# Altium schematic symbol library kmilo17pet-TI_MSP430.SchLib: 1463 symbols (part 107 of 130)
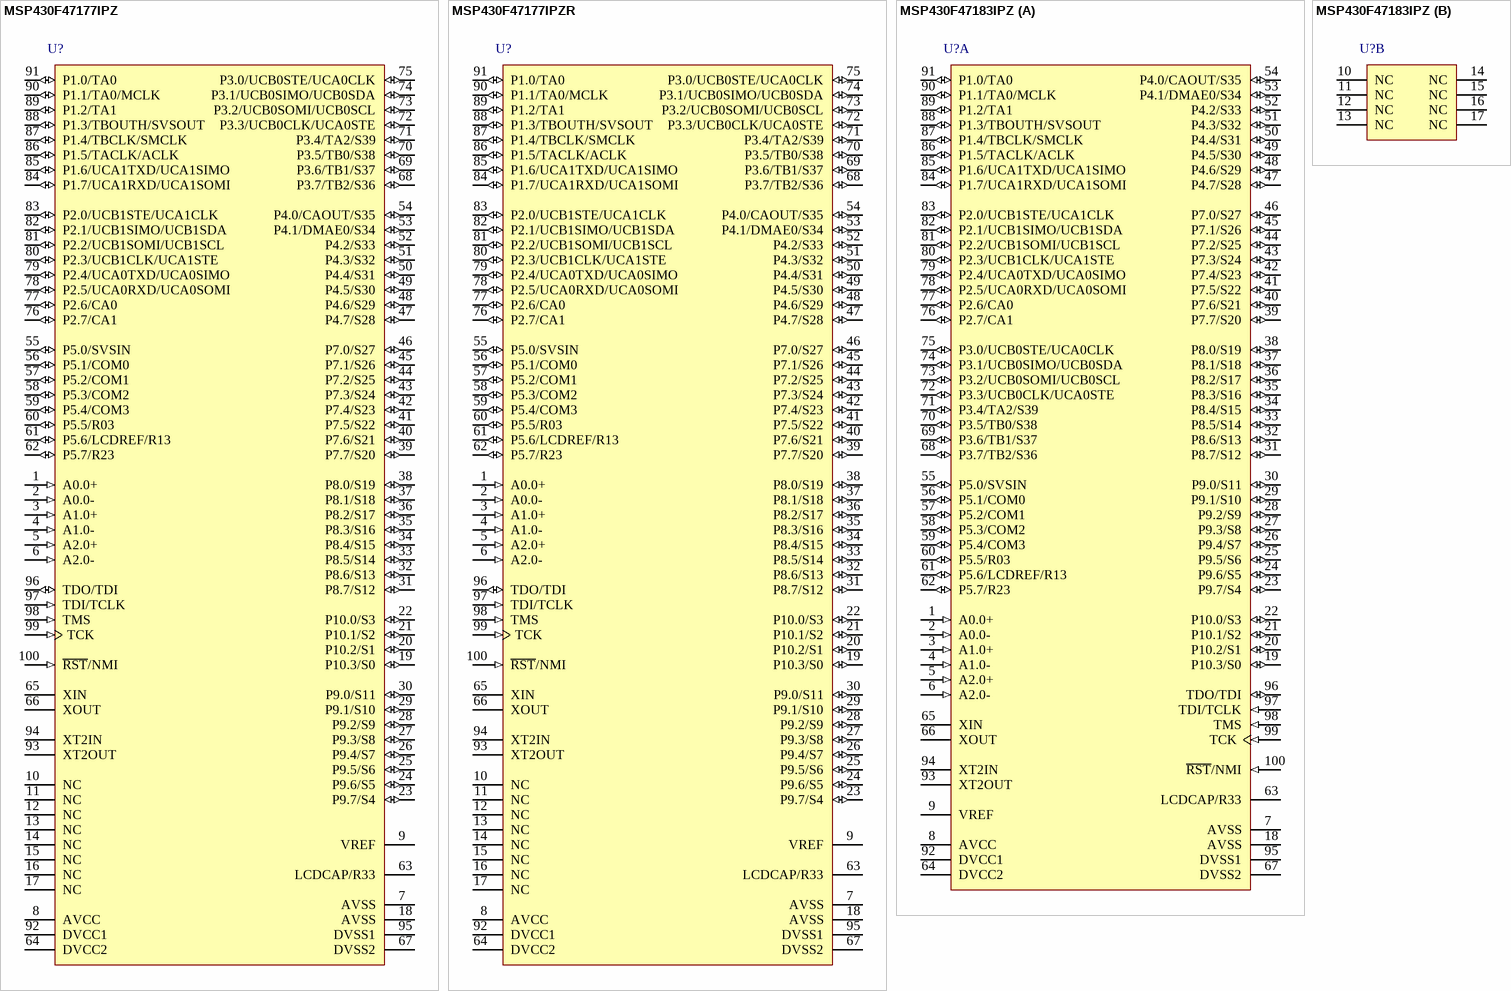
[diagram p289: symbols MSP430F47177IPZ to MSP430F47183IPZ]

## MSP430F47183IPZ
designator U?
16 MHz Mixed Signal Microcontroller with 116 KB Flash, 8129 B SRAM and 72 GPIOs, -40 to 85 degC, 100-pin QFP (PZ), Green (RoHS & no Sb/Br); Manufacturer: Texas Instruments; PartNumber: MSP430F47183IPZ; ADC: 16-bit Sigma Delta; Brown Out Reset: Yes; Flash(KB): 116; Frequency(MHz): 16; GPIO: 72; LCD Segments: 160; Multiplier: 16x16; SRAM(B): 8192; SubFamily: 4 Series with LCD; Timers - 16-bit: 2; DatasheetVersion: SLAS626C; PackageVersion: 4040149/B; PackageReference: PZ100; PackageDescription: 100-Pin Plastic Flat Pack, Body 14 x 14 mm, Pitch 0.5 mm; Supplier 1: Digi-Key; Supplier Part Number 1: 296-24641-2-ND; Supplier 2: Digi-Key; Supplier Part Number 2: 296-24641-1-ND; Supplier 3: Digi-Key; Supplier Part Number 3: 296-24641-6-ND; Supplier 4: Newark; Supplier Part Number 4: 24R9848; Supplier 5: Mouser; Supplier Part Number 5: 595-MSP430F47177IPZR; Comparators: Yes; Eco-Plan: Green (RoHS & no Sb/Br); SVS: Yes; Temp Sensor: Yes; USCI_A (UART/LIN/IrDA/SPI): 2; USCI_B (I2C & SPI): 2; Watchdog: Yes; Mounting Technology: Surface Mount; Code_JEDEC: MS-026; ComponentLink1Description: Manufacturer URL; ComponentLink1URL: http://www.ti.com/; ComponentLink2Description: Datasheet; ComponentLink2URL: http://www.ti.com/general/docs/lit/getliterature.tsp?genericPartNumber=MSP430F47183&fileType=pdf; ComponentLink3Description: Package Specification; ComponentLink3URL: http://www.ti.com/lit/ml/mtqf013a/mtqf013a.pdf
footprint TI-PZ100_N (QFP, 100-Leads, Body 14x14mm, Pitch 0.5mm, IPC Medium Density)
part A pins: 1 A0.0+ (in) "SD16_A positive analog input A0.0", 2 A0.0- (in) "SD16_A negative analog input A0.0", 3 A1.0+ (in) "SD16_A positive analog input A1.0", 4 A1.0- (in) "SD16_A negative analog input A1.0", 5 A2.0+ (in) "SD16_A positive analog input A2.0", 6 A2.0- (in) "SD16_A negative analog input A2.0", 7 AVSS (power) "Analog supply voltage, negative terminal", 8 AVCC (power) "Analog supply voltage, positive terminal. Must not power up prior to DVCC1/DVCC2.", 9 VREF "Input for an external reference voltage/internal reference voltage output (can be used as mid-voltage)", 18 AVSS (power) "Analog supply voltage, negative terminal.", 19 P10.3/S0 (io), 20 P10.2/S1 (io), 21 P10.1/S2 (io), 22 P10.0/S3 (io), 23 P9.7/S4 (io), 24 P9.6/S5 (io), 25 P9.5/S6 (io), 26 P9.4/S7 (io), 27 P9.3/S8 (io), 28 P9.2/S9 (io), 29 P9.1/S10 (io), 30 P9.0/S11 (io), 31 P8.7/S12 (io), 32 P8.6/S13 (io), 33 P8.5/S14 (io), 34 P8.4/S15 (io), 35 P8.3/S16 (io), 36 P8.2/S17 (io), 37 P8.1/S18 (io), 38 P8.0/S19 (io), 39 P7.7/S20 (io), 40 P7.6/S21 (io), 41 P7.5/S22 (io), 42 P7.4/S23 (io), 43 P7.3/S24 (io), 44 P7.2/S25 (io), 45 P7.1/S26 (io), 46 P7.0/S27 (io), 47 P4.7/S28 (io), 48 P4.6/S29 (io), 49 P4.5/S30 (io), 50 P4.4/S31 (io), 51 P4.3/S32 (io), 52 P4.2/S33 (io), 53 P4.1/DMAE0/S34 (io), 54 P4.0/CAOUT/S35 (io), 55 P5.0/SVSIN (io), 56 P5.1/COM0 (io), 57 P5.2/COM1 (io), 58 P5.3/COM2 (io), 59 P5.4/COM3 (io), 60 P5.5/R03 (io), 61 P5.6/LCDREF/R13 (io), 62 P5.7/R23 (io), 63 LCDCAP/R33, 64 DVCC2 (power) "Digital supply voltage, positive terminal.", 65 XIN "Input port for crystal oscillator XT1. Standard or watch crystals can be connected.", 66 XOUT "Output terminal of crystal oscillator XT1", 67 DVSS2 (power) "Digital supply voltage, negative terminal.", 68 P3.7/TB2/S36 (io), 69 P3.6/TB1/S37 (io), 70 P3.5/TB0/S38 (io), 71 P3.4/TA2/S39 (io), 72 P3.3/UCB0CLK/UCA0STE (io), 73 P3.2/UCB0SOMI/UCB0SCL (io), 74 P3.1/UCB0SIMO/UCB0SDA (io), 75 P3.0/UCB0STE/UCA0CLK (io), 76 P2.7/CA1 (io), 77 P2.6/CA0 (io), 78 P2.5/UCA0RXD/UCA0SOMI (io), 79 P2.4/UCA0TXD/UCA0SIMO (io), 80 P2.3/UCB1CLK/UCA1STE (io), 81 P2.2/UCB1SOMI/UCB1SCL (io), 82 P2.1/UCB1SIMO/UCB1SDA (io), 83 P2.0/UCB1STE/UCA1CLK (io), 84 P1.7/UCA1RXD/UCA1SOMI (io), 85 P1.6/UCA1TXD/UCA1SIMO (io), 86 P1.5/TACLK/ACLK (io), 87 P1.4/TBCLK/SMCLK (io), 88 P1.3/TBOUTH/SVSOUT (io), 89 P1.2/TA1 (io), 90 P1.1/TA0/MCLK (io), 91 P1.0/TA0 (io), 92 DVCC1 (power) "Digital supply voltage, positive terminal.", 93 XT2OUT "Output terminal of crystal oscillator XT2", 94 XT2IN "Input port for crystal oscillator XT2. Only standard crystals can be connected.", 95 DVSS1 (power) "Digital supply voltage, negative terminal.", 96 TDO/TDI (io), 97 TDI/TCLK (in), 98 TMS (in) "Test mode select. TMS is used as an input port for device programming and test.", 99 TCK (in) "Test clock. TCK is the clock input port for device programming and test.", 100 ~{RST}/NMI (in)
part B pins: 10 NC "Connect pin to analog ground (AVSS).", 11 NC "Connect pin to analog ground (AVSS).", 12 NC "Connect pin to analog ground (AVSS).", 13 NC "Connect pin to analog ground (AVSS).", 14 NC "Connect pin to analog ground (AVSS).", 15 NC "Connect pin to analog ground (AVSS).", 16 NC "Connect pin to analog ground (AVSS).", 17 NC "Connect pin to analog ground (AVSS)."

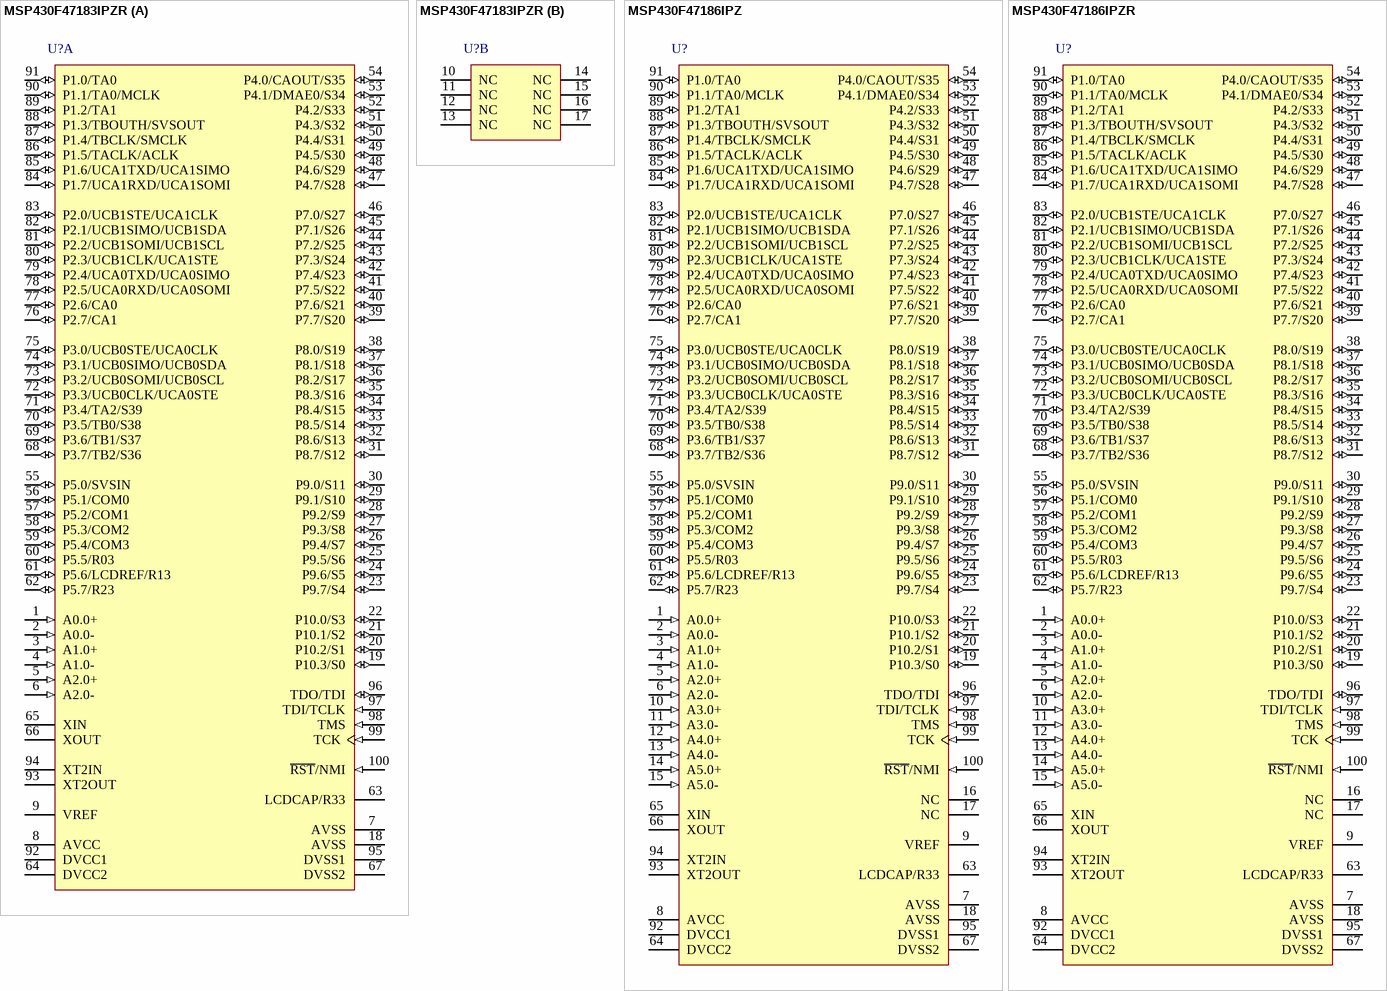
[diagram p180: symbols MSP430F47183IPZR to MSP430F47186IPZR]

## MSP430F47183IPZR
designator U?
16 MHz Mixed Signal Microcontroller with 116 KB Flash, 8129 B SRAM and 72 GPIOs, -40 to 85 degC, 100-pin QFP (PZ), Green (RoHS & no Sb/Br); Manufacturer: Texas Instruments; PartNumber: MSP430F47183IPZR; ADC: 16-bit Sigma Delta; Brown Out Reset: Yes; Flash(KB): 116; Frequency(MHz): 16; GPIO: 72; LCD Segments: 160; Multiplier: 16x16; SRAM(B): 8192; SubFamily: 4 Series with LCD; Timers - 16-bit: 2; DatasheetVersion: SLAS626C; PackageVersion: 4040149/B; PackageReference: PZ100; PackageDescription: 100-Pin Plastic Flat Pack, Body 14 x 14 mm, Pitch 0.5 mm; Supplier 1: Digi-Key; Supplier Part Number 1: MSP430F47183IPZ-ND; Supplier 2: Newark; Supplier Part Number 2: 72R5885; Supplier 3: Mouser; Supplier Part Number 3: 595-MSP430F47183IPZ; Comparators: Yes; Eco-Plan: Green (RoHS & no Sb/Br); SVS: Yes; Temp Sensor: Yes; USCI_A (UART/LIN/IrDA/SPI): 2; USCI_B (I2C & SPI): 2; Watchdog: Yes; Mounting Technology: Surface Mount; Code_JEDEC: MS-026; ComponentLink1Description: Manufacturer URL; ComponentLink1URL: http://www.ti.com/; ComponentLink2Description: Datasheet; ComponentLink2URL: http://www.ti.com/general/docs/lit/getliterature.tsp?genericPartNumber=MSP430F47183&fileType=pdf; ComponentLink3Description: Package Specification; ComponentLink3URL: http://www.ti.com/lit/ml/mtqf013a/mtqf013a.pdf
footprint TI-PZ100_N (QFP, 100-Leads, Body 14x14mm, Pitch 0.5mm, IPC Medium Density)
part A pins: 1 A0.0+ (in) "SD16_A positive analog input A0.0", 2 A0.0- (in) "SD16_A negative analog input A0.0", 3 A1.0+ (in) "SD16_A positive analog input A1.0", 4 A1.0- (in) "SD16_A negative analog input A1.0", 5 A2.0+ (in) "SD16_A positive analog input A2.0", 6 A2.0- (in) "SD16_A negative analog input A2.0", 7 AVSS (power) "Analog supply voltage, negative terminal", 8 AVCC (power) "Analog supply voltage, positive terminal. Must not power up prior to DVCC1/DVCC2.", 9 VREF "Input for an external reference voltage/internal reference voltage output (can be used as mid-voltage)", 18 AVSS (power) "Analog supply voltage, negative terminal.", 19 P10.3/S0 (io), 20 P10.2/S1 (io), 21 P10.1/S2 (io), 22 P10.0/S3 (io), 23 P9.7/S4 (io), 24 P9.6/S5 (io), 25 P9.5/S6 (io), 26 P9.4/S7 (io), 27 P9.3/S8 (io), 28 P9.2/S9 (io), 29 P9.1/S10 (io), 30 P9.0/S11 (io), 31 P8.7/S12 (io), 32 P8.6/S13 (io), 33 P8.5/S14 (io), 34 P8.4/S15 (io), 35 P8.3/S16 (io), 36 P8.2/S17 (io), 37 P8.1/S18 (io), 38 P8.0/S19 (io), 39 P7.7/S20 (io), 40 P7.6/S21 (io), 41 P7.5/S22 (io), 42 P7.4/S23 (io), 43 P7.3/S24 (io), 44 P7.2/S25 (io), 45 P7.1/S26 (io), 46 P7.0/S27 (io), 47 P4.7/S28 (io), 48 P4.6/S29 (io), 49 P4.5/S30 (io), 50 P4.4/S31 (io), 51 P4.3/S32 (io), 52 P4.2/S33 (io), 53 P4.1/DMAE0/S34 (io), 54 P4.0/CAOUT/S35 (io), 55 P5.0/SVSIN (io), 56 P5.1/COM0 (io), 57 P5.2/COM1 (io), 58 P5.3/COM2 (io), 59 P5.4/COM3 (io), 60 P5.5/R03 (io), 61 P5.6/LCDREF/R13 (io), 62 P5.7/R23 (io), 63 LCDCAP/R33, 64 DVCC2 (power) "Digital supply voltage, positive terminal.", 65 XIN "Input port for crystal oscillator XT1. Standard or watch crystals can be connected.", 66 XOUT "Output terminal of crystal oscillator XT1", 67 DVSS2 (power) "Digital supply voltage, negative terminal.", 68 P3.7/TB2/S36 (io), 69 P3.6/TB1/S37 (io), 70 P3.5/TB0/S38 (io), 71 P3.4/TA2/S39 (io), 72 P3.3/UCB0CLK/UCA0STE (io), 73 P3.2/UCB0SOMI/UCB0SCL (io), 74 P3.1/UCB0SIMO/UCB0SDA (io), 75 P3.0/UCB0STE/UCA0CLK (io), 76 P2.7/CA1 (io), 77 P2.6/CA0 (io), 78 P2.5/UCA0RXD/UCA0SOMI (io), 79 P2.4/UCA0TXD/UCA0SIMO (io), 80 P2.3/UCB1CLK/UCA1STE (io), 81 P2.2/UCB1SOMI/UCB1SCL (io), 82 P2.1/UCB1SIMO/UCB1SDA (io), 83 P2.0/UCB1STE/UCA1CLK (io), 84 P1.7/UCA1RXD/UCA1SOMI (io), 85 P1.6/UCA1TXD/UCA1SIMO (io), 86 P1.5/TACLK/ACLK (io), 87 P1.4/TBCLK/SMCLK (io), 88 P1.3/TBOUTH/SVSOUT (io), 89 P1.2/TA1 (io), 90 P1.1/TA0/MCLK (io), 91 P1.0/TA0 (io), 92 DVCC1 (power) "Digital supply voltage, positive terminal.", 93 XT2OUT "Output terminal of crystal oscillator XT2", 94 XT2IN "Input port for crystal oscillator XT2. Only standard crystals can be connected.", 95 DVSS1 (power) "Digital supply voltage, negative terminal.", 96 TDO/TDI (io), 97 TDI/TCLK (in), 98 TMS (in) "Test mode select. TMS is used as an input port for device programming and test.", 99 TCK (in) "Test clock. TCK is the clock input port for device programming and test.", 100 ~{RST}/NMI (in)
part B pins: 10 NC "Connect pin to analog ground (AVSS).", 11 NC "Connect pin to analog ground (AVSS).", 12 NC "Connect pin to analog ground (AVSS).", 13 NC "Connect pin to analog ground (AVSS).", 14 NC "Connect pin to analog ground (AVSS).", 15 NC "Connect pin to analog ground (AVSS).", 16 NC "Connect pin to analog ground (AVSS).", 17 NC "Connect pin to analog ground (AVSS)."

## MSP430F47186IPZ
designator U?
16 MHz Mixed Signal Microcontroller with 116 KB Flash, 8129 B SRAM and 68 GPIOs, -40 to 85 degC, 100-pin QFP (PZ), Green (RoHS & no Sb/Br); Manufacturer: Texas Instruments; PartNumber: MSP430F47186IPZ; ADC: 16-bit Sigma Delta; Brown Out Reset: Yes; Flash(KB): 116; Frequency(MHz): 16; GPIO: 68; LCD Segments: 160; Multiplier: 16x16; SRAM(B): 8192; SubFamily: 4 Series with LCD; Timers - 16-bit: 2; DatasheetVersion: SLAS626C; PackageVersion: 4040149/B; PackageReference: PZ100; PackageDescription: 100-Pin Plastic Flat Pack, Body 14 x 14 mm, Pitch 0.5 mm; Supplier 1: Digi-Key; Supplier Part Number 1: 296-25776-2-ND; Supplier 2: Digi-Key; Supplier Part Number 2: 296-25776-1-ND; Supplier 3: Digi-Key; Supplier Part Number 3: 296-25776-6-ND; Supplier 4: Newark; Supplier Part Number 4: 68R9288; Supplier 5: Mouser; Supplier Part Number 5: 595-MSP430F47183IPZR; Comparators: Yes; Eco-Plan: Green (RoHS & no Sb/Br); SVS: Yes; Temp Sensor: Yes; USCI_A (UART/LIN/IrDA/SPI): 2; USCI_B (I2C & SPI): 2; Watchdog: Yes; Mounting Technology: Surface Mount; Code_JEDEC: MS-026; ComponentLink1Description: Manufacturer URL; ComponentLink1URL: http://www.ti.com/; ComponentLink2Description: Datasheet; ComponentLink2URL: http://www.ti.com/general/docs/lit/getliterature.tsp?genericPartNumber=MSP430F47186&fileType=pdf; ComponentLink3Description: Package Specification; ComponentLink3URL: http://www.ti.com/lit/ml/mtqf013a/mtqf013a.pdf
footprint TI-PZ100_N (QFP, 100-Leads, Body 14x14mm, Pitch 0.5mm, IPC Medium Density)
pins: 1 A0.0+ (in) "SD16_A positive analog input A0.0", 2 A0.0- (in) "SD16_A negative analog input A0.0", 3 A1.0+ (in) "SD16_A positive analog input A1.0", 4 A1.0- (in) "SD16_A negative analog input A1.0", 5 A2.0+ (in) "SD16_A positive analog input A2.0", 6 A2.0- (in) "SD16_A negative analog input A2.0", 7 AVSS (power) "Analog supply voltage, negative terminal", 8 AVCC (power) "Analog supply voltage, positive terminal. Must not power up prior to DVCC1/DVCC2.", 9 VREF "Input for an external reference voltage/internal reference voltage output (can be used as mid-voltage)", 10 A3.0+ (in) "SD16_A positive analog input A3.0", 11 A3.0- (in) "SD16_A negative analog input A3.0", 12 A4.0+ (in) "SD16_A positive analog input A4.0", 13 A4.0- (in) "SD16_A negative analog input A4.0", 14 A5.0+ (in) "SD16_A positive analog input A5.0", 15 A5.0- (in) "SD16_A negative analog input A5.0", 16 NC "Connect pin to analog ground (AVSS).", 17 NC "Connect pin to analog ground (AVSS).", 18 AVSS (power) "Analog supply voltage, negative terminal.", 19 P10.3/S0 (io), 20 P10.2/S1 (io), 21 P10.1/S2 (io), 22 P10.0/S3 (io), 23 P9.7/S4 (io), 24 P9.6/S5 (io), 25 P9.5/S6 (io), 26 P9.4/S7 (io), 27 P9.3/S8 (io), 28 P9.2/S9 (io), 29 P9.1/S10 (io), 30 P9.0/S11 (io), 31 P8.7/S12 (io), 32 P8.6/S13 (io), 33 P8.5/S14 (io), 34 P8.4/S15 (io), 35 P8.3/S16 (io), 36 P8.2/S17 (io), 37 P8.1/S18 (io), 38 P8.0/S19 (io), 39 P7.7/S20 (io), 40 P7.6/S21 (io), 41 P7.5/S22 (io), 42 P7.4/S23 (io), 43 P7.3/S24 (io), 44 P7.2/S25 (io), 45 P7.1/S26 (io), 46 P7.0/S27 (io), 47 P4.7/S28 (io), 48 P4.6/S29 (io), 49 P4.5/S30 (io), 50 P4.4/S31 (io), 51 P4.3/S32 (io), 52 P4.2/S33 (io), 53 P4.1/DMAE0/S34 (io), 54 P4.0/CAOUT/S35 (io), 55 P5.0/SVSIN (io), 56 P5.1/COM0 (io), 57 P5.2/COM1 (io), 58 P5.3/COM2 (io), 59 P5.4/COM3 (io), 60 P5.5/R03 (io), 61 P5.6/LCDREF/R13 (io), 62 P5.7/R23 (io), 63 LCDCAP/R33, 64 DVCC2 (power) "Digital supply voltage, positive terminal.", 65 XIN "Input port for crystal oscillator XT1. Standard or watch crystals can be connected.", 66 XOUT "Output terminal of crystal oscillator XT1", 67 DVSS2 (power) "Digital supply voltage, negative terminal.", 68 P3.7/TB2/S36 (io), 69 P3.6/TB1/S37 (io), 70 P3.5/TB0/S38 (io), 71 P3.4/TA2/S39 (io), 72 P3.3/UCB0CLK/UCA0STE (io), 73 P3.2/UCB0SOMI/UCB0SCL (io), 74 P3.1/UCB0SIMO/UCB0SDA (io), 75 P3.0/UCB0STE/UCA0CLK (io), 76 P2.7/CA1 (io), 77 P2.6/CA0 (io), 78 P2.5/UCA0RXD/UCA0SOMI (io), 79 P2.4/UCA0TXD/UCA0SIMO (io), 80 P2.3/UCB1CLK/UCA1STE (io), 81 P2.2/UCB1SOMI/UCB1SCL (io), 82 P2.1/UCB1SIMO/UCB1SDA (io), 83 P2.0/UCB1STE/UCA1CLK (io), 84 P1.7/UCA1RXD/UCA1SOMI (io), 85 P1.6/UCA1TXD/UCA1SIMO (io), 86 P1.5/TACLK/ACLK (io), 87 P1.4/TBCLK/SMCLK (io), 88 P1.3/TBOUTH/SVSOUT (io), 89 P1.2/TA1 (io), 90 P1.1/TA0/MCLK (io), 91 P1.0/TA0 (io), 92 DVCC1 (power) "Digital supply voltage, positive terminal.", 93 XT2OUT "Output terminal of crystal oscillator XT2", 94 XT2IN "Input port for crystal oscillator XT2. Only standard crystals can be connected.", 95 DVSS1 (power) "Digital supply voltage, negative terminal.", 96 TDO/TDI (io), 97 TDI/TCLK (in), 98 TMS (in) "Test mode select. TMS is used as an input port for device programming and test.", 99 TCK (in) "Test clock. TCK is the clock input port for device programming and test.", 100 ~{RST}/NMI (in)

## MSP430F47186IPZR
designator U?
16 MHz Mixed Signal Microcontroller with 116 KB Flash, 8129 B SRAM and 68 GPIOs, -40 to 85 degC, 100-pin QFP (PZ), Green (RoHS & no Sb/Br); Manufacturer: Texas Instruments; PartNumber: MSP430F47186IPZR; ADC: 16-bit Sigma Delta; Brown Out Reset: Yes; Flash(KB): 116; Frequency(MHz): 16; GPIO: 68; LCD Segments: 160; Multiplier: 16x16; SRAM(B): 8192; SubFamily: 4 Series with LCD; Timers - 16-bit: 2; DatasheetVersion: SLAS626C; PackageVersion: 4040149/B; PackageReference: PZ100; PackageDescription: 100-Pin Plastic Flat Pack, Body 14 x 14 mm, Pitch 0.5 mm; Supplier 1: Digi-Key; Supplier Part Number 1: MSP430F47186IPZ-ND; Supplier 2: Newark; Supplier Part Number 2: 24R9849; Supplier 3: Mouser; Supplier Part Number 3: 595-MSP430F47186IPZ; Comparators: Yes; Eco-Plan: Green (RoHS & no Sb/Br); SVS: Yes; Temp Sensor: Yes; USCI_A (UART/LIN/IrDA/SPI): 2; USCI_B (I2C & SPI): 2; Watchdog: Yes; Mounting Technology: Surface Mount; Code_JEDEC: MS-026; ComponentLink1Description: Manufacturer URL; ComponentLink1URL: http://www.ti.com/; ComponentLink2Description: Datasheet; ComponentLink2URL: http://www.ti.com/general/docs/lit/getliterature.tsp?genericPartNumber=MSP430F47186&fileType=pdf; ComponentLink3Description: Package Specification; ComponentLink3URL: http://www.ti.com/lit/ml/mtqf013a/mtqf013a.pdf
footprint TI-PZ100_N (QFP, 100-Leads, Body 14x14mm, Pitch 0.5mm, IPC Medium Density)
pins: 1 A0.0+ (in) "SD16_A positive analog input A0.0", 2 A0.0- (in) "SD16_A negative analog input A0.0", 3 A1.0+ (in) "SD16_A positive analog input A1.0", 4 A1.0- (in) "SD16_A negative analog input A1.0", 5 A2.0+ (in) "SD16_A positive analog input A2.0", 6 A2.0- (in) "SD16_A negative analog input A2.0", 7 AVSS (power) "Analog supply voltage, negative terminal", 8 AVCC (power) "Analog supply voltage, positive terminal. Must not power up prior to DVCC1/DVCC2.", 9 VREF "Input for an external reference voltage/internal reference voltage output (can be used as mid-voltage)", 10 A3.0+ (in) "SD16_A positive analog input A3.0", 11 A3.0- (in) "SD16_A negative analog input A3.0", 12 A4.0+ (in) "SD16_A positive analog input A4.0", 13 A4.0- (in) "SD16_A negative analog input A4.0", 14 A5.0+ (in) "SD16_A positive analog input A5.0", 15 A5.0- (in) "SD16_A negative analog input A5.0", 16 NC "Connect pin to analog ground (AVSS).", 17 NC "Connect pin to analog ground (AVSS).", 18 AVSS (power) "Analog supply voltage, negative terminal.", 19 P10.3/S0 (io), 20 P10.2/S1 (io), 21 P10.1/S2 (io), 22 P10.0/S3 (io), 23 P9.7/S4 (io), 24 P9.6/S5 (io), 25 P9.5/S6 (io), 26 P9.4/S7 (io), 27 P9.3/S8 (io), 28 P9.2/S9 (io), 29 P9.1/S10 (io), 30 P9.0/S11 (io), 31 P8.7/S12 (io), 32 P8.6/S13 (io), 33 P8.5/S14 (io), 34 P8.4/S15 (io), 35 P8.3/S16 (io), 36 P8.2/S17 (io), 37 P8.1/S18 (io), 38 P8.0/S19 (io), 39 P7.7/S20 (io), 40 P7.6/S21 (io), 41 P7.5/S22 (io), 42 P7.4/S23 (io), 43 P7.3/S24 (io), 44 P7.2/S25 (io), 45 P7.1/S26 (io), 46 P7.0/S27 (io), 47 P4.7/S28 (io), 48 P4.6/S29 (io), 49 P4.5/S30 (io), 50 P4.4/S31 (io), 51 P4.3/S32 (io), 52 P4.2/S33 (io), 53 P4.1/DMAE0/S34 (io), 54 P4.0/CAOUT/S35 (io), 55 P5.0/SVSIN (io), 56 P5.1/COM0 (io), 57 P5.2/COM1 (io), 58 P5.3/COM2 (io), 59 P5.4/COM3 (io), 60 P5.5/R03 (io), 61 P5.6/LCDREF/R13 (io), 62 P5.7/R23 (io), 63 LCDCAP/R33, 64 DVCC2 (power) "Digital supply voltage, positive terminal.", 65 XIN "Input port for crystal oscillator XT1. Standard or watch crystals can be connected.", 66 XOUT "Output terminal of crystal oscillator XT1", 67 DVSS2 (power) "Digital supply voltage, negative terminal.", 68 P3.7/TB2/S36 (io), 69 P3.6/TB1/S37 (io), 70 P3.5/TB0/S38 (io), 71 P3.4/TA2/S39 (io), 72 P3.3/UCB0CLK/UCA0STE (io), 73 P3.2/UCB0SOMI/UCB0SCL (io), 74 P3.1/UCB0SIMO/UCB0SDA (io), 75 P3.0/UCB0STE/UCA0CLK (io), 76 P2.7/CA1 (io), 77 P2.6/CA0 (io), 78 P2.5/UCA0RXD/UCA0SOMI (io), 79 P2.4/UCA0TXD/UCA0SIMO (io), 80 P2.3/UCB1CLK/UCA1STE (io), 81 P2.2/UCB1SOMI/UCB1SCL (io), 82 P2.1/UCB1SIMO/UCB1SDA (io), 83 P2.0/UCB1STE/UCA1CLK (io), 84 P1.7/UCA1RXD/UCA1SOMI (io), 85 P1.6/UCA1TXD/UCA1SIMO (io), 86 P1.5/TACLK/ACLK (io), 87 P1.4/TBCLK/SMCLK (io), 88 P1.3/TBOUTH/SVSOUT (io), 89 P1.2/TA1 (io), 90 P1.1/TA0/MCLK (io), 91 P1.0/TA0 (io), 92 DVCC1 (power) "Digital supply voltage, positive terminal.", 93 XT2OUT "Output terminal of crystal oscillator XT2", 94 XT2IN "Input port for crystal oscillator XT2. Only standard crystals can be connected.", 95 DVSS1 (power) "Digital supply voltage, negative terminal.", 96 TDO/TDI (io), 97 TDI/TCLK (in), 98 TMS (in) "Test mode select. TMS is used as an input port for device programming and test.", 99 TCK (in) "Test clock. TCK is the clock input port for device programming and test.", 100 ~{RST}/NMI (in)

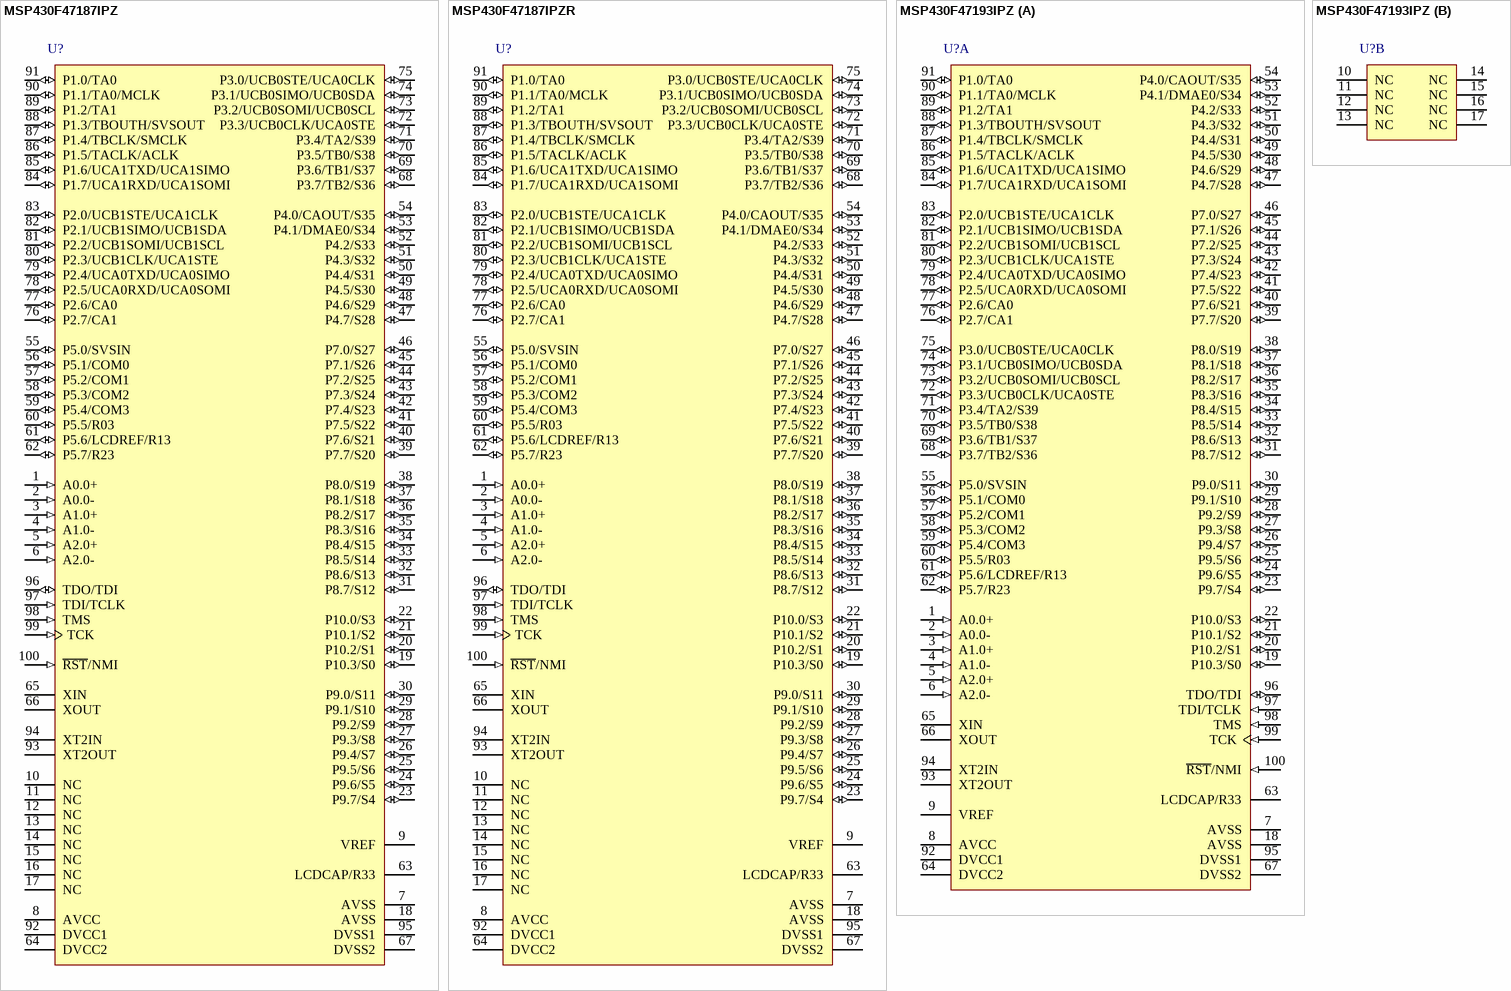
[diagram p181: symbols MSP430F47187IPZ to MSP430F47193IPZ]

## MSP430F47187IPZ
designator U?
16 MHz Mixed Signal Microcontroller with 116 KB Flash, 8129 B SRAM and 68 GPIOs, -40 to 85 degC, 100-pin QFP (PZ), Green (RoHS & no Sb/Br); Manufacturer: Texas Instruments; PartNumber: MSP430F47187IPZ; ADC: 16-bit Sigma Delta; Brown Out Reset: Yes; Flash(KB): 116; Frequency(MHz): 16; GPIO: 68; LCD Segments: 160; Multiplier: 16x16; SRAM(B): 8192; SubFamily: 4 Series with LCD; Timers - 16-bit: 2; DatasheetVersion: SLAS626C; PackageVersion: 4040149/B; PackageReference: PZ100; PackageDescription: 100-Pin Plastic Flat Pack, Body 14 x 14 mm, Pitch 0.5 mm; Supplier 1: Digi-Key; Supplier Part Number 1: 296-24642-2-ND; Supplier 2: Digi-Key; Supplier Part Number 2: 296-24642-1-ND; Supplier 3: Digi-Key; Supplier Part Number 3: 296-24642-6-ND; Supplier 4: Newark; Supplier Part Number 4: 24R9850; Supplier 5: Mouser; Supplier Part Number 5: 595-MSP430F47186IPZR; Comparators: Yes; Eco-Plan: Green (RoHS & no Sb/Br); SVS: Yes; Temp Sensor: Yes; USCI_A (UART/LIN/IrDA/SPI): 2; USCI_B (I2C & SPI): 2; Watchdog: Yes; Mounting Technology: Surface Mount; Code_JEDEC: MS-026; ComponentLink1Description: Manufacturer URL; ComponentLink1URL: http://www.ti.com/; ComponentLink2Description: Datasheet; ComponentLink2URL: http://www.ti.com/general/docs/lit/getliterature.tsp?genericPartNumber=MSP430F47187&fileType=pdf; ComponentLink3Description: Package Specification; ComponentLink3URL: http://www.ti.com/lit/ml/mtqf013a/mtqf013a.pdf
footprint TI-PZ100_N (QFP, 100-Leads, Body 14x14mm, Pitch 0.5mm, IPC Medium Density)
pins: 1 A0.0+ (in) "SD16_A positive analog input A0.0", 2 A0.0- (in) "SD16_A negative analog input A0.0", 3 A1.0+ (in) "SD16_A positive analog input A1.0", 4 A1.0- (in) "SD16_A negative analog input A1.0", 5 A2.0+ (in) "SD16_A positive analog input A2.0", 6 A2.0- (in) "SD16_A negative analog input A2.0", 7 AVSS (power) "Analog supply voltage, negative terminal", 8 AVCC (power) "Analog supply voltage, positive terminal. Must not power up prior to DVCC1/DVCC2.", 9 VREF "Input for an external reference voltage/internal reference voltage output (can be used as mid-voltage)", 10 NC "Connect pin to analog ground (AVSS).", 11 NC "Connect pin to analog ground (AVSS).", 12 NC "Connect pin to analog ground (AVSS).", 13 NC "Connect pin to analog ground (AVSS).", 14 NC "Connect pin to analog ground (AVSS).", 15 NC "Connect pin to analog ground (AVSS).", 16 NC "Connect pin to analog ground (AVSS).", 17 NC "Connect pin to analog ground (AVSS).", 18 AVSS (power) "Analog supply voltage, negative terminal.", 19 P10.3/S0 (io), 20 P10.2/S1 (io), 21 P10.1/S2 (io), 22 P10.0/S3 (io), 23 P9.7/S4 (io), 24 P9.6/S5 (io), 25 P9.5/S6 (io), 26 P9.4/S7 (io), 27 P9.3/S8 (io), 28 P9.2/S9 (io), 29 P9.1/S10 (io), 30 P9.0/S11 (io), 31 P8.7/S12 (io), 32 P8.6/S13 (io), 33 P8.5/S14 (io), 34 P8.4/S15 (io), 35 P8.3/S16 (io), 36 P8.2/S17 (io), 37 P8.1/S18 (io), 38 P8.0/S19 (io), 39 P7.7/S20 (io), 40 P7.6/S21 (io), 41 P7.5/S22 (io), 42 P7.4/S23 (io), 43 P7.3/S24 (io), 44 P7.2/S25 (io), 45 P7.1/S26 (io), 46 P7.0/S27 (io), 47 P4.7/S28 (io), 48 P4.6/S29 (io), 49 P4.5/S30 (io), 50 P4.4/S31 (io), 51 P4.3/S32 (io), 52 P4.2/S33 (io), 53 P4.1/DMAE0/S34 (io), 54 P4.0/CAOUT/S35 (io), 55 P5.0/SVSIN (io), 56 P5.1/COM0 (io), 57 P5.2/COM1 (io), 58 P5.3/COM2 (io), 59 P5.4/COM3 (io), 60 P5.5/R03 (io), 61 P5.6/LCDREF/R13 (io), 62 P5.7/R23 (io), 63 LCDCAP/R33, 64 DVCC2 (power) "Digital supply voltage, positive terminal.", 65 XIN "Input port for crystal oscillator XT1. Standard or watch crystals can be connected.", 66 XOUT "Output terminal of crystal oscillator XT1", 67 DVSS2 (power) "Digital supply voltage, negative terminal.", 68 P3.7/TB2/S36 (io), 69 P3.6/TB1/S37 (io), 70 P3.5/TB0/S38 (io), 71 P3.4/TA2/S39 (io), 72 P3.3/UCB0CLK/UCA0STE (io), 73 P3.2/UCB0SOMI/UCB0SCL (io), 74 P3.1/UCB0SIMO/UCB0SDA (io), 75 P3.0/UCB0STE/UCA0CLK (io), 76 P2.7/CA1 (io), 77 P2.6/CA0 (io), 78 P2.5/UCA0RXD/UCA0SOMI (io), 79 P2.4/UCA0TXD/UCA0SIMO (io), 80 P2.3/UCB1CLK/UCA1STE (io), 81 P2.2/UCB1SOMI/UCB1SCL (io), 82 P2.1/UCB1SIMO/UCB1SDA (io), 83 P2.0/UCB1STE/UCA1CLK (io), 84 P1.7/UCA1RXD/UCA1SOMI (io), 85 P1.6/UCA1TXD/UCA1SIMO (io), 86 P1.5/TACLK/ACLK (io), 87 P1.4/TBCLK/SMCLK (io), 88 P1.3/TBOUTH/SVSOUT (io), 89 P1.2/TA1 (io), 90 P1.1/TA0/MCLK (io), 91 P1.0/TA0 (io), 92 DVCC1 (power) "Digital supply voltage, positive terminal.", 93 XT2OUT "Output terminal of crystal oscillator XT2", 94 XT2IN "Input port for crystal oscillator XT2. Only standard crystals can be connected.", 95 DVSS1 (power) "Digital supply voltage, negative terminal.", 96 TDO/TDI (io), 97 TDI/TCLK (in), 98 TMS (in) "Test mode select. TMS is used as an input port for device programming and test.", 99 TCK (in) "Test clock. TCK is the clock input port for device programming and test.", 100 ~{RST}/NMI (in)

## MSP430F47187IPZR
designator U?
16 MHz Mixed Signal Microcontroller with 116 KB Flash, 8129 B SRAM and 68 GPIOs, -40 to 85 degC, 100-pin QFP (PZ), Green (RoHS & no Sb/Br); Manufacturer: Texas Instruments; PartNumber: MSP430F47187IPZR; ADC: 16-bit Sigma Delta; Brown Out Reset: Yes; Flash(KB): 116; Frequency(MHz): 16; GPIO: 68; LCD Segments: 160; Multiplier: 16x16; SRAM(B): 8192; SubFamily: 4 Series with LCD; Timers - 16-bit: 2; DatasheetVersion: SLAS626C; PackageVersion: 4040149/B; PackageReference: PZ100; PackageDescription: 100-Pin Plastic Flat Pack, Body 14 x 14 mm, Pitch 0.5 mm; Supplier 1: Digi-Key; Supplier Part Number 1: 296-32666-ND; Supplier 2: Newark; Supplier Part Number 2: 24R9851; Supplier 3: Mouser; Supplier Part Number 3: 595-MSP430F47187IPZ; Comparators: Yes; Eco-Plan: Green (RoHS & no Sb/Br); SVS: Yes; Temp Sensor: Yes; USCI_A (UART/LIN/IrDA/SPI): 2; USCI_B (I2C & SPI): 2; Watchdog: Yes; Mounting Technology: Surface Mount; Code_JEDEC: MS-026; ComponentLink1Description: Manufacturer URL; ComponentLink1URL: http://www.ti.com/; ComponentLink2Description: Datasheet; ComponentLink2URL: http://www.ti.com/general/docs/lit/getliterature.tsp?genericPartNumber=MSP430F47187&fileType=pdf; ComponentLink3Description: Package Specification; ComponentLink3URL: http://www.ti.com/lit/ml/mtqf013a/mtqf013a.pdf
footprint TI-PZ100_N (QFP, 100-Leads, Body 14x14mm, Pitch 0.5mm, IPC Medium Density)
pins: 1 A0.0+ (in) "SD16_A positive analog input A0.0", 2 A0.0- (in) "SD16_A negative analog input A0.0", 3 A1.0+ (in) "SD16_A positive analog input A1.0", 4 A1.0- (in) "SD16_A negative analog input A1.0", 5 A2.0+ (in) "SD16_A positive analog input A2.0", 6 A2.0- (in) "SD16_A negative analog input A2.0", 7 AVSS (power) "Analog supply voltage, negative terminal", 8 AVCC (power) "Analog supply voltage, positive terminal. Must not power up prior to DVCC1/DVCC2.", 9 VREF "Input for an external reference voltage/internal reference voltage output (can be used as mid-voltage)", 10 NC "Connect pin to analog ground (AVSS).", 11 NC "Connect pin to analog ground (AVSS).", 12 NC "Connect pin to analog ground (AVSS).", 13 NC "Connect pin to analog ground (AVSS).", 14 NC "Connect pin to analog ground (AVSS).", 15 NC "Connect pin to analog ground (AVSS).", 16 NC "Connect pin to analog ground (AVSS).", 17 NC "Connect pin to analog ground (AVSS).", 18 AVSS (power) "Analog supply voltage, negative terminal.", 19 P10.3/S0 (io), 20 P10.2/S1 (io), 21 P10.1/S2 (io), 22 P10.0/S3 (io), 23 P9.7/S4 (io), 24 P9.6/S5 (io), 25 P9.5/S6 (io), 26 P9.4/S7 (io), 27 P9.3/S8 (io), 28 P9.2/S9 (io), 29 P9.1/S10 (io), 30 P9.0/S11 (io), 31 P8.7/S12 (io), 32 P8.6/S13 (io), 33 P8.5/S14 (io), 34 P8.4/S15 (io), 35 P8.3/S16 (io), 36 P8.2/S17 (io), 37 P8.1/S18 (io), 38 P8.0/S19 (io), 39 P7.7/S20 (io), 40 P7.6/S21 (io), 41 P7.5/S22 (io), 42 P7.4/S23 (io), 43 P7.3/S24 (io), 44 P7.2/S25 (io), 45 P7.1/S26 (io), 46 P7.0/S27 (io), 47 P4.7/S28 (io), 48 P4.6/S29 (io), 49 P4.5/S30 (io), 50 P4.4/S31 (io), 51 P4.3/S32 (io), 52 P4.2/S33 (io), 53 P4.1/DMAE0/S34 (io), 54 P4.0/CAOUT/S35 (io), 55 P5.0/SVSIN (io), 56 P5.1/COM0 (io), 57 P5.2/COM1 (io), 58 P5.3/COM2 (io), 59 P5.4/COM3 (io), 60 P5.5/R03 (io), 61 P5.6/LCDREF/R13 (io), 62 P5.7/R23 (io), 63 LCDCAP/R33, 64 DVCC2 (power) "Digital supply voltage, positive terminal.", 65 XIN "Input port for crystal oscillator XT1. Standard or watch crystals can be connected.", 66 XOUT "Output terminal of crystal oscillator XT1", 67 DVSS2 (power) "Digital supply voltage, negative terminal.", 68 P3.7/TB2/S36 (io), 69 P3.6/TB1/S37 (io), 70 P3.5/TB0/S38 (io), 71 P3.4/TA2/S39 (io), 72 P3.3/UCB0CLK/UCA0STE (io), 73 P3.2/UCB0SOMI/UCB0SCL (io), 74 P3.1/UCB0SIMO/UCB0SDA (io), 75 P3.0/UCB0STE/UCA0CLK (io), 76 P2.7/CA1 (io), 77 P2.6/CA0 (io), 78 P2.5/UCA0RXD/UCA0SOMI (io), 79 P2.4/UCA0TXD/UCA0SIMO (io), 80 P2.3/UCB1CLK/UCA1STE (io), 81 P2.2/UCB1SOMI/UCB1SCL (io), 82 P2.1/UCB1SIMO/UCB1SDA (io), 83 P2.0/UCB1STE/UCA1CLK (io), 84 P1.7/UCA1RXD/UCA1SOMI (io), 85 P1.6/UCA1TXD/UCA1SIMO (io), 86 P1.5/TACLK/ACLK (io), 87 P1.4/TBCLK/SMCLK (io), 88 P1.3/TBOUTH/SVSOUT (io), 89 P1.2/TA1 (io), 90 P1.1/TA0/MCLK (io), 91 P1.0/TA0 (io), 92 DVCC1 (power) "Digital supply voltage, positive terminal.", 93 XT2OUT "Output terminal of crystal oscillator XT2", 94 XT2IN "Input port for crystal oscillator XT2. Only standard crystals can be connected.", 95 DVSS1 (power) "Digital supply voltage, negative terminal.", 96 TDO/TDI (io), 97 TDI/TCLK (in), 98 TMS (in) "Test mode select. TMS is used as an input port for device programming and test.", 99 TCK (in) "Test clock. TCK is the clock input port for device programming and test.", 100 ~{RST}/NMI (in)

## MSP430F47193IPZ
designator U?
16 MHz Mixed Signal Microcontroller with 120 KB Flash, 4096 B SRAM and 72 GPIOs, -40 to 85 degC, 100-pin QFP (PZ), Green (RoHS & no Sb/Br); Manufacturer: Texas Instruments; PartNumber: MSP430F47193IPZ; ADC: 16-bit Sigma Delta; Brown Out Reset: Yes; Flash(KB): 120; Frequency(MHz): 16; GPIO: 72; LCD Segments: 160; Multiplier: 16x16; SRAM(B): 4096; SubFamily: 4 Series with LCD; Timers - 16-bit: 2; DatasheetVersion: SLAS626C; PackageVersion: 4040149/B; PackageReference: PZ100; PackageDescription: 100-Pin Plastic Flat Pack, Body 14 x 14 mm, Pitch 0.5 mm; Supplier 1: Digi-Key; Supplier Part Number 1: 296-24643-2-ND; Supplier 2: Digi-Key; Supplier Part Number 2: 296-24643-1-ND; Supplier 3: Digi-Key; Supplier Part Number 3: 296-24643-6-ND; Supplier 4: Newark; Supplier Part Number 4: 24R9852; Supplier 5: Mouser; Supplier Part Number 5: 595-MSP430F47187IPZR; Comparators: Yes; Eco-Plan: Green (RoHS & no Sb/Br); SVS: Yes; Temp Sensor: Yes; USCI_A (UART/LIN/IrDA/SPI): 2; USCI_B (I2C & SPI): 2; Watchdog: Yes; Mounting Technology: Surface Mount; Code_JEDEC: MS-026; ComponentLink1Description: Manufacturer URL; ComponentLink1URL: http://www.ti.com/; ComponentLink2Description: Datasheet; ComponentLink2URL: http://www.ti.com/general/docs/lit/getliterature.tsp?genericPartNumber=MSP430F47193&fileType=pdf; ComponentLink3Description: Package Specification; ComponentLink3URL: http://www.ti.com/lit/ml/mtqf013a/mtqf013a.pdf
footprint TI-PZ100_N (QFP, 100-Leads, Body 14x14mm, Pitch 0.5mm, IPC Medium Density)
part A pins: 1 A0.0+ (in) "SD16_A positive analog input A0.0", 2 A0.0- (in) "SD16_A negative analog input A0.0", 3 A1.0+ (in) "SD16_A positive analog input A1.0", 4 A1.0- (in) "SD16_A negative analog input A1.0", 5 A2.0+ (in) "SD16_A positive analog input A2.0", 6 A2.0- (in) "SD16_A negative analog input A2.0", 7 AVSS (power) "Analog supply voltage, negative terminal", 8 AVCC (power) "Analog supply voltage, positive terminal. Must not power up prior to DVCC1/DVCC2.", 9 VREF "Input for an external reference voltage/internal reference voltage output (can be used as mid-voltage)", 18 AVSS (power) "Analog supply voltage, negative terminal.", 19 P10.3/S0 (io), 20 P10.2/S1 (io), 21 P10.1/S2 (io), 22 P10.0/S3 (io), 23 P9.7/S4 (io), 24 P9.6/S5 (io), 25 P9.5/S6 (io), 26 P9.4/S7 (io), 27 P9.3/S8 (io), 28 P9.2/S9 (io), 29 P9.1/S10 (io), 30 P9.0/S11 (io), 31 P8.7/S12 (io), 32 P8.6/S13 (io), 33 P8.5/S14 (io), 34 P8.4/S15 (io), 35 P8.3/S16 (io), 36 P8.2/S17 (io), 37 P8.1/S18 (io), 38 P8.0/S19 (io), 39 P7.7/S20 (io), 40 P7.6/S21 (io), 41 P7.5/S22 (io), 42 P7.4/S23 (io), 43 P7.3/S24 (io), 44 P7.2/S25 (io), 45 P7.1/S26 (io), 46 P7.0/S27 (io), 47 P4.7/S28 (io), 48 P4.6/S29 (io), 49 P4.5/S30 (io), 50 P4.4/S31 (io), 51 P4.3/S32 (io), 52 P4.2/S33 (io), 53 P4.1/DMAE0/S34 (io), 54 P4.0/CAOUT/S35 (io), 55 P5.0/SVSIN (io), 56 P5.1/COM0 (io), 57 P5.2/COM1 (io), 58 P5.3/COM2 (io), 59 P5.4/COM3 (io), 60 P5.5/R03 (io), 61 P5.6/LCDREF/R13 (io), 62 P5.7/R23 (io), 63 LCDCAP/R33, 64 DVCC2 (power) "Digital supply voltage, positive terminal.", 65 XIN "Input port for crystal oscillator XT1. Standard or watch crystals can be connected.", 66 XOUT "Output terminal of crystal oscillator XT1", 67 DVSS2 (power) "Digital supply voltage, negative terminal.", 68 P3.7/TB2/S36 (io), 69 P3.6/TB1/S37 (io), 70 P3.5/TB0/S38 (io), 71 P3.4/TA2/S39 (io), 72 P3.3/UCB0CLK/UCA0STE (io), 73 P3.2/UCB0SOMI/UCB0SCL (io), 74 P3.1/UCB0SIMO/UCB0SDA (io), 75 P3.0/UCB0STE/UCA0CLK (io), 76 P2.7/CA1 (io), 77 P2.6/CA0 (io), 78 P2.5/UCA0RXD/UCA0SOMI (io), 79 P2.4/UCA0TXD/UCA0SIMO (io), 80 P2.3/UCB1CLK/UCA1STE (io), 81 P2.2/UCB1SOMI/UCB1SCL (io), 82 P2.1/UCB1SIMO/UCB1SDA (io), 83 P2.0/UCB1STE/UCA1CLK (io), 84 P1.7/UCA1RXD/UCA1SOMI (io), 85 P1.6/UCA1TXD/UCA1SIMO (io), 86 P1.5/TACLK/ACLK (io), 87 P1.4/TBCLK/SMCLK (io), 88 P1.3/TBOUTH/SVSOUT (io), 89 P1.2/TA1 (io), 90 P1.1/TA0/MCLK (io), 91 P1.0/TA0 (io), 92 DVCC1 (power) "Digital supply voltage, positive terminal.", 93 XT2OUT "Output terminal of crystal oscillator XT2", 94 XT2IN "Input port for crystal oscillator XT2. Only standard crystals can be connected.", 95 DVSS1 (power) "Digital supply voltage, negative terminal.", 96 TDO/TDI (io), 97 TDI/TCLK (in), 98 TMS (in) "Test mode select. TMS is used as an input port for device programming and test.", 99 TCK (in) "Test clock. TCK is the clock input port for device programming and test.", 100 ~{RST}/NMI (in)
part B pins: 10 NC "Connect pin to analog ground (AVSS).", 11 NC "Connect pin to analog ground (AVSS).", 12 NC "Connect pin to analog ground (AVSS).", 13 NC "Connect pin to analog ground (AVSS).", 14 NC "Connect pin to analog ground (AVSS).", 15 NC "Connect pin to analog ground (AVSS).", 16 NC "Connect pin to analog ground (AVSS).", 17 NC "Connect pin to analog ground (AVSS)."

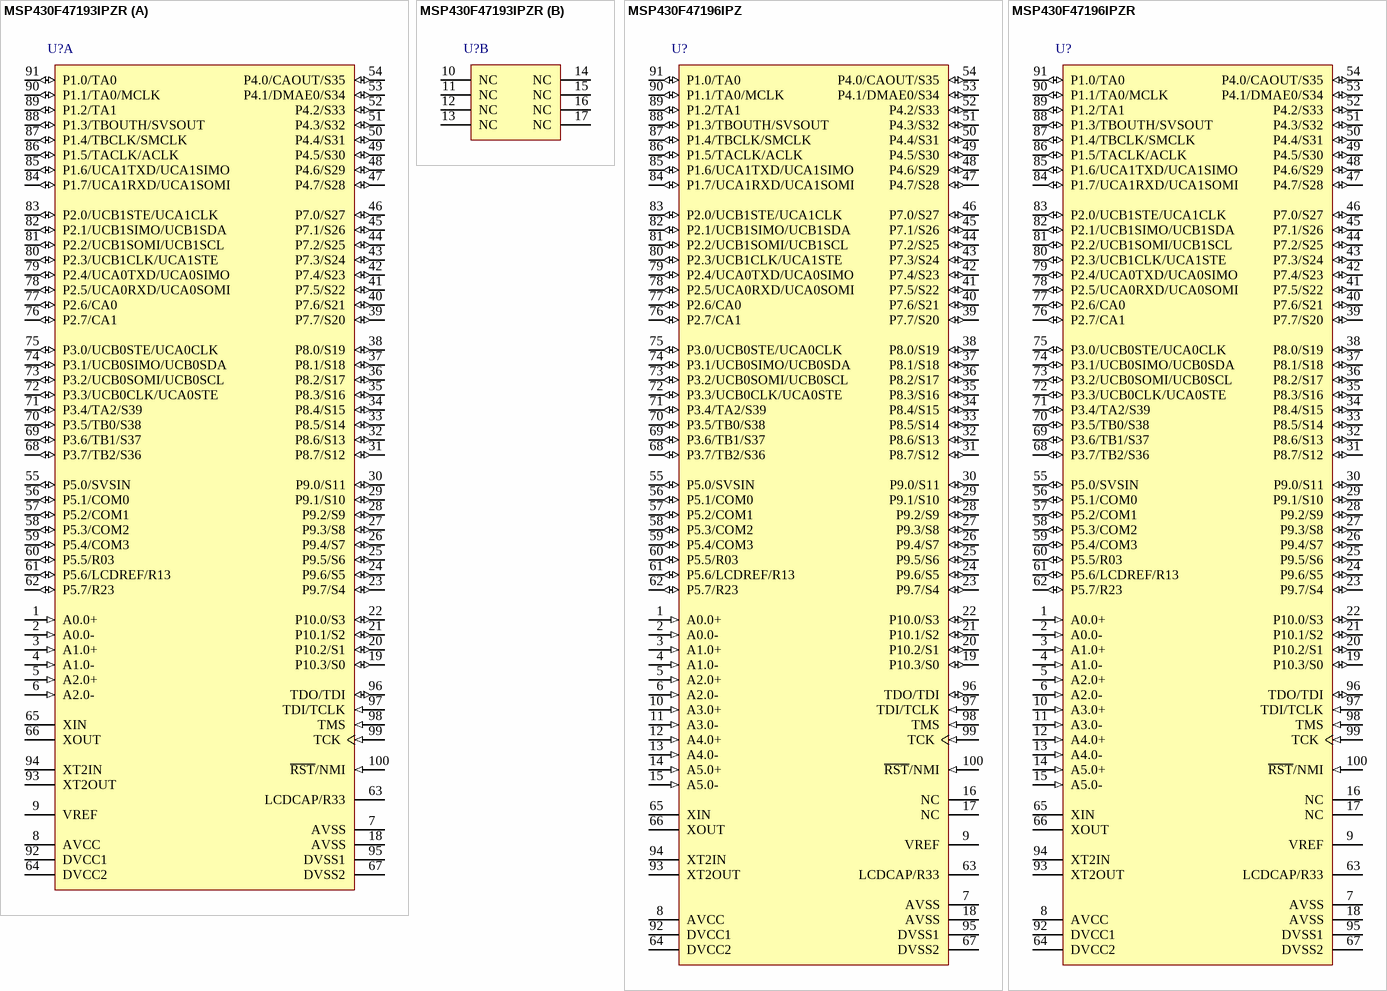
[diagram p182: symbols MSP430F47193IPZR to MSP430F47196IPZR]

## MSP430F47193IPZR
designator U?
16 MHz Mixed Signal Microcontroller with 120 KB Flash, 4096 B SRAM and 72 GPIOs, -40 to 85 degC, 100-pin QFP (PZ), Green (RoHS & no Sb/Br); Manufacturer: Texas Instruments; PartNumber: MSP430F47193IPZR; ADC: 16-bit Sigma Delta; Brown Out Reset: Yes; Flash(KB): 120; Frequency(MHz): 16; GPIO: 72; LCD Segments: 160; Multiplier: 16x16; SRAM(B): 4096; SubFamily: 4 Series with LCD; Timers - 16-bit: 2; DatasheetVersion: SLAS626C; PackageVersion: 4040149/B; PackageReference: PZ100; PackageDescription: 100-Pin Plastic Flat Pack, Body 14 x 14 mm, Pitch 0.5 mm; Supplier 1: Digi-Key; Supplier Part Number 1: MSP430F47193IPZ-ND; Supplier 2: Newark; Supplier Part Number 2: 72R5886; Supplier 3: Mouser; Supplier Part Number 3: 595-MSP430F47193IPZ; Comparators: Yes; Eco-Plan: Green (RoHS & no Sb/Br); SVS: Yes; Temp Sensor: Yes; USCI_A (UART/LIN/IrDA/SPI): 2; USCI_B (I2C & SPI): 2; Watchdog: Yes; Mounting Technology: Surface Mount; Code_JEDEC: MS-026; ComponentLink1Description: Manufacturer URL; ComponentLink1URL: http://www.ti.com/; ComponentLink2Description: Datasheet; ComponentLink2URL: http://www.ti.com/general/docs/lit/getliterature.tsp?genericPartNumber=MSP430F47193&fileType=pdf; ComponentLink3Description: Package Specification; ComponentLink3URL: http://www.ti.com/lit/ml/mtqf013a/mtqf013a.pdf
footprint TI-PZ100_N (QFP, 100-Leads, Body 14x14mm, Pitch 0.5mm, IPC Medium Density)
part A pins: 1 A0.0+ (in) "SD16_A positive analog input A0.0", 2 A0.0- (in) "SD16_A negative analog input A0.0", 3 A1.0+ (in) "SD16_A positive analog input A1.0", 4 A1.0- (in) "SD16_A negative analog input A1.0", 5 A2.0+ (in) "SD16_A positive analog input A2.0", 6 A2.0- (in) "SD16_A negative analog input A2.0", 7 AVSS (power) "Analog supply voltage, negative terminal", 8 AVCC (power) "Analog supply voltage, positive terminal. Must not power up prior to DVCC1/DVCC2.", 9 VREF "Input for an external reference voltage/internal reference voltage output (can be used as mid-voltage)", 18 AVSS (power) "Analog supply voltage, negative terminal.", 19 P10.3/S0 (io), 20 P10.2/S1 (io), 21 P10.1/S2 (io), 22 P10.0/S3 (io), 23 P9.7/S4 (io), 24 P9.6/S5 (io), 25 P9.5/S6 (io), 26 P9.4/S7 (io), 27 P9.3/S8 (io), 28 P9.2/S9 (io), 29 P9.1/S10 (io), 30 P9.0/S11 (io), 31 P8.7/S12 (io), 32 P8.6/S13 (io), 33 P8.5/S14 (io), 34 P8.4/S15 (io), 35 P8.3/S16 (io), 36 P8.2/S17 (io), 37 P8.1/S18 (io), 38 P8.0/S19 (io), 39 P7.7/S20 (io), 40 P7.6/S21 (io), 41 P7.5/S22 (io), 42 P7.4/S23 (io), 43 P7.3/S24 (io), 44 P7.2/S25 (io), 45 P7.1/S26 (io), 46 P7.0/S27 (io), 47 P4.7/S28 (io), 48 P4.6/S29 (io), 49 P4.5/S30 (io), 50 P4.4/S31 (io), 51 P4.3/S32 (io), 52 P4.2/S33 (io), 53 P4.1/DMAE0/S34 (io), 54 P4.0/CAOUT/S35 (io), 55 P5.0/SVSIN (io), 56 P5.1/COM0 (io), 57 P5.2/COM1 (io), 58 P5.3/COM2 (io), 59 P5.4/COM3 (io), 60 P5.5/R03 (io), 61 P5.6/LCDREF/R13 (io), 62 P5.7/R23 (io), 63 LCDCAP/R33, 64 DVCC2 (power) "Digital supply voltage, positive terminal.", 65 XIN "Input port for crystal oscillator XT1. Standard or watch crystals can be connected.", 66 XOUT "Output terminal of crystal oscillator XT1", 67 DVSS2 (power) "Digital supply voltage, negative terminal.", 68 P3.7/TB2/S36 (io), 69 P3.6/TB1/S37 (io), 70 P3.5/TB0/S38 (io), 71 P3.4/TA2/S39 (io), 72 P3.3/UCB0CLK/UCA0STE (io), 73 P3.2/UCB0SOMI/UCB0SCL (io), 74 P3.1/UCB0SIMO/UCB0SDA (io), 75 P3.0/UCB0STE/UCA0CLK (io), 76 P2.7/CA1 (io), 77 P2.6/CA0 (io), 78 P2.5/UCA0RXD/UCA0SOMI (io), 79 P2.4/UCA0TXD/UCA0SIMO (io), 80 P2.3/UCB1CLK/UCA1STE (io), 81 P2.2/UCB1SOMI/UCB1SCL (io), 82 P2.1/UCB1SIMO/UCB1SDA (io), 83 P2.0/UCB1STE/UCA1CLK (io), 84 P1.7/UCA1RXD/UCA1SOMI (io), 85 P1.6/UCA1TXD/UCA1SIMO (io), 86 P1.5/TACLK/ACLK (io), 87 P1.4/TBCLK/SMCLK (io), 88 P1.3/TBOUTH/SVSOUT (io), 89 P1.2/TA1 (io), 90 P1.1/TA0/MCLK (io), 91 P1.0/TA0 (io), 92 DVCC1 (power) "Digital supply voltage, positive terminal.", 93 XT2OUT "Output terminal of crystal oscillator XT2", 94 XT2IN "Input port for crystal oscillator XT2. Only standard crystals can be connected.", 95 DVSS1 (power) "Digital supply voltage, negative terminal.", 96 TDO/TDI (io), 97 TDI/TCLK (in), 98 TMS (in) "Test mode select. TMS is used as an input port for device programming and test.", 99 TCK (in) "Test clock. TCK is the clock input port for device programming and test.", 100 ~{RST}/NMI (in)
part B pins: 10 NC "Connect pin to analog ground (AVSS).", 11 NC "Connect pin to analog ground (AVSS).", 12 NC "Connect pin to analog ground (AVSS).", 13 NC "Connect pin to analog ground (AVSS).", 14 NC "Connect pin to analog ground (AVSS).", 15 NC "Connect pin to analog ground (AVSS).", 16 NC "Connect pin to analog ground (AVSS).", 17 NC "Connect pin to analog ground (AVSS)."

## MSP430F47196IPZ
designator U?
16 MHz Mixed Signal Microcontroller with 120 KB Flash, 4096 B SRAM and 68 GPIOs, -40 to 85 degC, 100-pin QFP (PZ), Green (RoHS & no Sb/Br); Manufacturer: Texas Instruments; PartNumber: MSP430F47196IPZ; ADC: 16-bit Sigma Delta; Brown Out Reset: Yes; Flash(KB): 120; Frequency(MHz): 16; GPIO: 68; LCD Segments: 160; Multiplier: 16x16; SRAM(B): 4096; SubFamily: 4 Series with LCD; Timers - 16-bit: 2; DatasheetVersion: SLAS626C; PackageVersion: 4040149/B; PackageReference: PZ100; PackageDescription: 100-Pin Plastic Flat Pack, Body 14 x 14 mm, Pitch 0.5 mm; Supplier 1: Digi-Key; Supplier Part Number 1: 296-25777-2-ND; Supplier 2: Digi-Key; Supplier Part Number 2: 296-25777-1-ND; Supplier 3: Digi-Key; Supplier Part Number 3: 296-25777-6-ND; Supplier 4: Newark; Supplier Part Number 4: 68R9289; Supplier 5: Mouser; Supplier Part Number 5: 595-MSP430F47193IPZR; Comparators: Yes; Eco-Plan: Green (RoHS & no Sb/Br); SVS: Yes; Temp Sensor: Yes; USCI_A (UART/LIN/IrDA/SPI): 2; USCI_B (I2C & SPI): 2; Watchdog: Yes; Mounting Technology: Surface Mount; Code_JEDEC: MS-026; ComponentLink1Description: Manufacturer URL; ComponentLink1URL: http://www.ti.com/; ComponentLink2Description: Datasheet; ComponentLink2URL: http://www.ti.com/general/docs/lit/getliterature.tsp?genericPartNumber=MSP430F47196&fileType=pdf; ComponentLink3Description: Package Specification; ComponentLink3URL: http://www.ti.com/lit/ml/mtqf013a/mtqf013a.pdf
footprint TI-PZ100_N (QFP, 100-Leads, Body 14x14mm, Pitch 0.5mm, IPC Medium Density)
pins: 1 A0.0+ (in) "SD16_A positive analog input A0.0", 2 A0.0- (in) "SD16_A negative analog input A0.0", 3 A1.0+ (in) "SD16_A positive analog input A1.0", 4 A1.0- (in) "SD16_A negative analog input A1.0", 5 A2.0+ (in) "SD16_A positive analog input A2.0", 6 A2.0- (in) "SD16_A negative analog input A2.0", 7 AVSS (power) "Analog supply voltage, negative terminal", 8 AVCC (power) "Analog supply voltage, positive terminal. Must not power up prior to DVCC1/DVCC2.", 9 VREF "Input for an external reference voltage/internal reference voltage output (can be used as mid-voltage)", 10 A3.0+ (in) "SD16_A positive analog input A3.0", 11 A3.0- (in) "SD16_A negative analog input A3.0", 12 A4.0+ (in) "SD16_A positive analog input A4.0", 13 A4.0- (in) "SD16_A negative analog input A4.0", 14 A5.0+ (in) "SD16_A positive analog input A5.0", 15 A5.0- (in) "SD16_A negative analog input A5.0", 16 NC "Connect pin to analog ground (AVSS).", 17 NC "Connect pin to analog ground (AVSS).", 18 AVSS (power) "Analog supply voltage, negative terminal.", 19 P10.3/S0 (io), 20 P10.2/S1 (io), 21 P10.1/S2 (io), 22 P10.0/S3 (io), 23 P9.7/S4 (io), 24 P9.6/S5 (io), 25 P9.5/S6 (io), 26 P9.4/S7 (io), 27 P9.3/S8 (io), 28 P9.2/S9 (io), 29 P9.1/S10 (io), 30 P9.0/S11 (io), 31 P8.7/S12 (io), 32 P8.6/S13 (io), 33 P8.5/S14 (io), 34 P8.4/S15 (io), 35 P8.3/S16 (io), 36 P8.2/S17 (io), 37 P8.1/S18 (io), 38 P8.0/S19 (io), 39 P7.7/S20 (io), 40 P7.6/S21 (io), 41 P7.5/S22 (io), 42 P7.4/S23 (io), 43 P7.3/S24 (io), 44 P7.2/S25 (io), 45 P7.1/S26 (io), 46 P7.0/S27 (io), 47 P4.7/S28 (io), 48 P4.6/S29 (io), 49 P4.5/S30 (io), 50 P4.4/S31 (io), 51 P4.3/S32 (io), 52 P4.2/S33 (io), 53 P4.1/DMAE0/S34 (io), 54 P4.0/CAOUT/S35 (io), 55 P5.0/SVSIN (io), 56 P5.1/COM0 (io), 57 P5.2/COM1 (io), 58 P5.3/COM2 (io), 59 P5.4/COM3 (io), 60 P5.5/R03 (io), 61 P5.6/LCDREF/R13 (io), 62 P5.7/R23 (io), 63 LCDCAP/R33, 64 DVCC2 (power) "Digital supply voltage, positive terminal.", 65 XIN "Input port for crystal oscillator XT1. Standard or watch crystals can be connected.", 66 XOUT "Output terminal of crystal oscillator XT1", 67 DVSS2 (power) "Digital supply voltage, negative terminal.", 68 P3.7/TB2/S36 (io), 69 P3.6/TB1/S37 (io), 70 P3.5/TB0/S38 (io), 71 P3.4/TA2/S39 (io), 72 P3.3/UCB0CLK/UCA0STE (io), 73 P3.2/UCB0SOMI/UCB0SCL (io), 74 P3.1/UCB0SIMO/UCB0SDA (io), 75 P3.0/UCB0STE/UCA0CLK (io), 76 P2.7/CA1 (io), 77 P2.6/CA0 (io), 78 P2.5/UCA0RXD/UCA0SOMI (io), 79 P2.4/UCA0TXD/UCA0SIMO (io), 80 P2.3/UCB1CLK/UCA1STE (io), 81 P2.2/UCB1SOMI/UCB1SCL (io), 82 P2.1/UCB1SIMO/UCB1SDA (io), 83 P2.0/UCB1STE/UCA1CLK (io), 84 P1.7/UCA1RXD/UCA1SOMI (io), 85 P1.6/UCA1TXD/UCA1SIMO (io), 86 P1.5/TACLK/ACLK (io), 87 P1.4/TBCLK/SMCLK (io), 88 P1.3/TBOUTH/SVSOUT (io), 89 P1.2/TA1 (io), 90 P1.1/TA0/MCLK (io), 91 P1.0/TA0 (io), 92 DVCC1 (power) "Digital supply voltage, positive terminal.", 93 XT2OUT "Output terminal of crystal oscillator XT2", 94 XT2IN "Input port for crystal oscillator XT2. Only standard crystals can be connected.", 95 DVSS1 (power) "Digital supply voltage, negative terminal.", 96 TDO/TDI (io), 97 TDI/TCLK (in), 98 TMS (in) "Test mode select. TMS is used as an input port for device programming and test.", 99 TCK (in) "Test clock. TCK is the clock input port for device programming and test.", 100 ~{RST}/NMI (in)

## MSP430F47196IPZR
designator U?
16 MHz Mixed Signal Microcontroller with 120 KB Flash, 4096 B SRAM and 68 GPIOs, -40 to 85 degC, 100-pin QFP (PZ), Green (RoHS & no Sb/Br); Manufacturer: Texas Instruments; PartNumber: MSP430F47196IPZR; ADC: 16-bit Sigma Delta; Brown Out Reset: Yes; Flash(KB): 120; Frequency(MHz): 16; GPIO: 68; LCD Segments: 160; Multiplier: 16x16; SRAM(B): 4096; SubFamily: 4 Series with LCD; Timers - 16-bit: 2; DatasheetVersion: SLAS626C; PackageVersion: 4040149/B; PackageReference: PZ100; PackageDescription: 100-Pin Plastic Flat Pack, Body 14 x 14 mm, Pitch 0.5 mm; Supplier 1: Digi-Key; Supplier Part Number 1: MSP430F47196IPZ-ND; Supplier 2: Newark; Supplier Part Number 2: 24R9853; Supplier 3: Mouser; Supplier Part Number 3: 595-MSP430F47196IPZ; Comparators: Yes; Eco-Plan: Green (RoHS & no Sb/Br); SVS: Yes; Temp Sensor: Yes; USCI_A (UART/LIN/IrDA/SPI): 2; USCI_B (I2C & SPI): 2; Watchdog: Yes; Mounting Technology: Surface Mount; Code_JEDEC: MS-026; ComponentLink1Description: Manufacturer URL; ComponentLink1URL: http://www.ti.com/; ComponentLink2Description: Datasheet; ComponentLink2URL: http://www.ti.com/general/docs/lit/getliterature.tsp?genericPartNumber=MSP430F47196&fileType=pdf; ComponentLink3Description: Package Specification; ComponentLink3URL: http://www.ti.com/lit/ml/mtqf013a/mtqf013a.pdf
footprint TI-PZ100_N (QFP, 100-Leads, Body 14x14mm, Pitch 0.5mm, IPC Medium Density)
pins: 1 A0.0+ (in) "SD16_A positive analog input A0.0", 2 A0.0- (in) "SD16_A negative analog input A0.0", 3 A1.0+ (in) "SD16_A positive analog input A1.0", 4 A1.0- (in) "SD16_A negative analog input A1.0", 5 A2.0+ (in) "SD16_A positive analog input A2.0", 6 A2.0- (in) "SD16_A negative analog input A2.0", 7 AVSS (power) "Analog supply voltage, negative terminal", 8 AVCC (power) "Analog supply voltage, positive terminal. Must not power up prior to DVCC1/DVCC2.", 9 VREF "Input for an external reference voltage/internal reference voltage output (can be used as mid-voltage)", 10 A3.0+ (in) "SD16_A positive analog input A3.0", 11 A3.0- (in) "SD16_A negative analog input A3.0", 12 A4.0+ (in) "SD16_A positive analog input A4.0", 13 A4.0- (in) "SD16_A negative analog input A4.0", 14 A5.0+ (in) "SD16_A positive analog input A5.0", 15 A5.0- (in) "SD16_A negative analog input A5.0", 16 NC "Connect pin to analog ground (AVSS).", 17 NC "Connect pin to analog ground (AVSS).", 18 AVSS (power) "Analog supply voltage, negative terminal.", 19 P10.3/S0 (io), 20 P10.2/S1 (io), 21 P10.1/S2 (io), 22 P10.0/S3 (io), 23 P9.7/S4 (io), 24 P9.6/S5 (io), 25 P9.5/S6 (io), 26 P9.4/S7 (io), 27 P9.3/S8 (io), 28 P9.2/S9 (io), 29 P9.1/S10 (io), 30 P9.0/S11 (io), 31 P8.7/S12 (io), 32 P8.6/S13 (io), 33 P8.5/S14 (io), 34 P8.4/S15 (io), 35 P8.3/S16 (io), 36 P8.2/S17 (io), 37 P8.1/S18 (io), 38 P8.0/S19 (io), 39 P7.7/S20 (io), 40 P7.6/S21 (io), 41 P7.5/S22 (io), 42 P7.4/S23 (io), 43 P7.3/S24 (io), 44 P7.2/S25 (io), 45 P7.1/S26 (io), 46 P7.0/S27 (io), 47 P4.7/S28 (io), 48 P4.6/S29 (io), 49 P4.5/S30 (io), 50 P4.4/S31 (io), 51 P4.3/S32 (io), 52 P4.2/S33 (io), 53 P4.1/DMAE0/S34 (io), 54 P4.0/CAOUT/S35 (io), 55 P5.0/SVSIN (io), 56 P5.1/COM0 (io), 57 P5.2/COM1 (io), 58 P5.3/COM2 (io), 59 P5.4/COM3 (io), 60 P5.5/R03 (io), 61 P5.6/LCDREF/R13 (io), 62 P5.7/R23 (io), 63 LCDCAP/R33, 64 DVCC2 (power) "Digital supply voltage, positive terminal.", 65 XIN "Input port for crystal oscillator XT1. Standard or watch crystals can be connected.", 66 XOUT "Output terminal of crystal oscillator XT1", 67 DVSS2 (power) "Digital supply voltage, negative terminal.", 68 P3.7/TB2/S36 (io), 69 P3.6/TB1/S37 (io), 70 P3.5/TB0/S38 (io), 71 P3.4/TA2/S39 (io), 72 P3.3/UCB0CLK/UCA0STE (io), 73 P3.2/UCB0SOMI/UCB0SCL (io), 74 P3.1/UCB0SIMO/UCB0SDA (io), 75 P3.0/UCB0STE/UCA0CLK (io), 76 P2.7/CA1 (io), 77 P2.6/CA0 (io), 78 P2.5/UCA0RXD/UCA0SOMI (io), 79 P2.4/UCA0TXD/UCA0SIMO (io), 80 P2.3/UCB1CLK/UCA1STE (io), 81 P2.2/UCB1SOMI/UCB1SCL (io), 82 P2.1/UCB1SIMO/UCB1SDA (io), 83 P2.0/UCB1STE/UCA1CLK (io), 84 P1.7/UCA1RXD/UCA1SOMI (io), 85 P1.6/UCA1TXD/UCA1SIMO (io), 86 P1.5/TACLK/ACLK (io), 87 P1.4/TBCLK/SMCLK (io), 88 P1.3/TBOUTH/SVSOUT (io), 89 P1.2/TA1 (io), 90 P1.1/TA0/MCLK (io), 91 P1.0/TA0 (io), 92 DVCC1 (power) "Digital supply voltage, positive terminal.", 93 XT2OUT "Output terminal of crystal oscillator XT2", 94 XT2IN "Input port for crystal oscillator XT2. Only standard crystals can be connected.", 95 DVSS1 (power) "Digital supply voltage, negative terminal.", 96 TDO/TDI (io), 97 TDI/TCLK (in), 98 TMS (in) "Test mode select. TMS is used as an input port for device programming and test.", 99 TCK (in) "Test clock. TCK is the clock input port for device programming and test.", 100 ~{RST}/NMI (in)

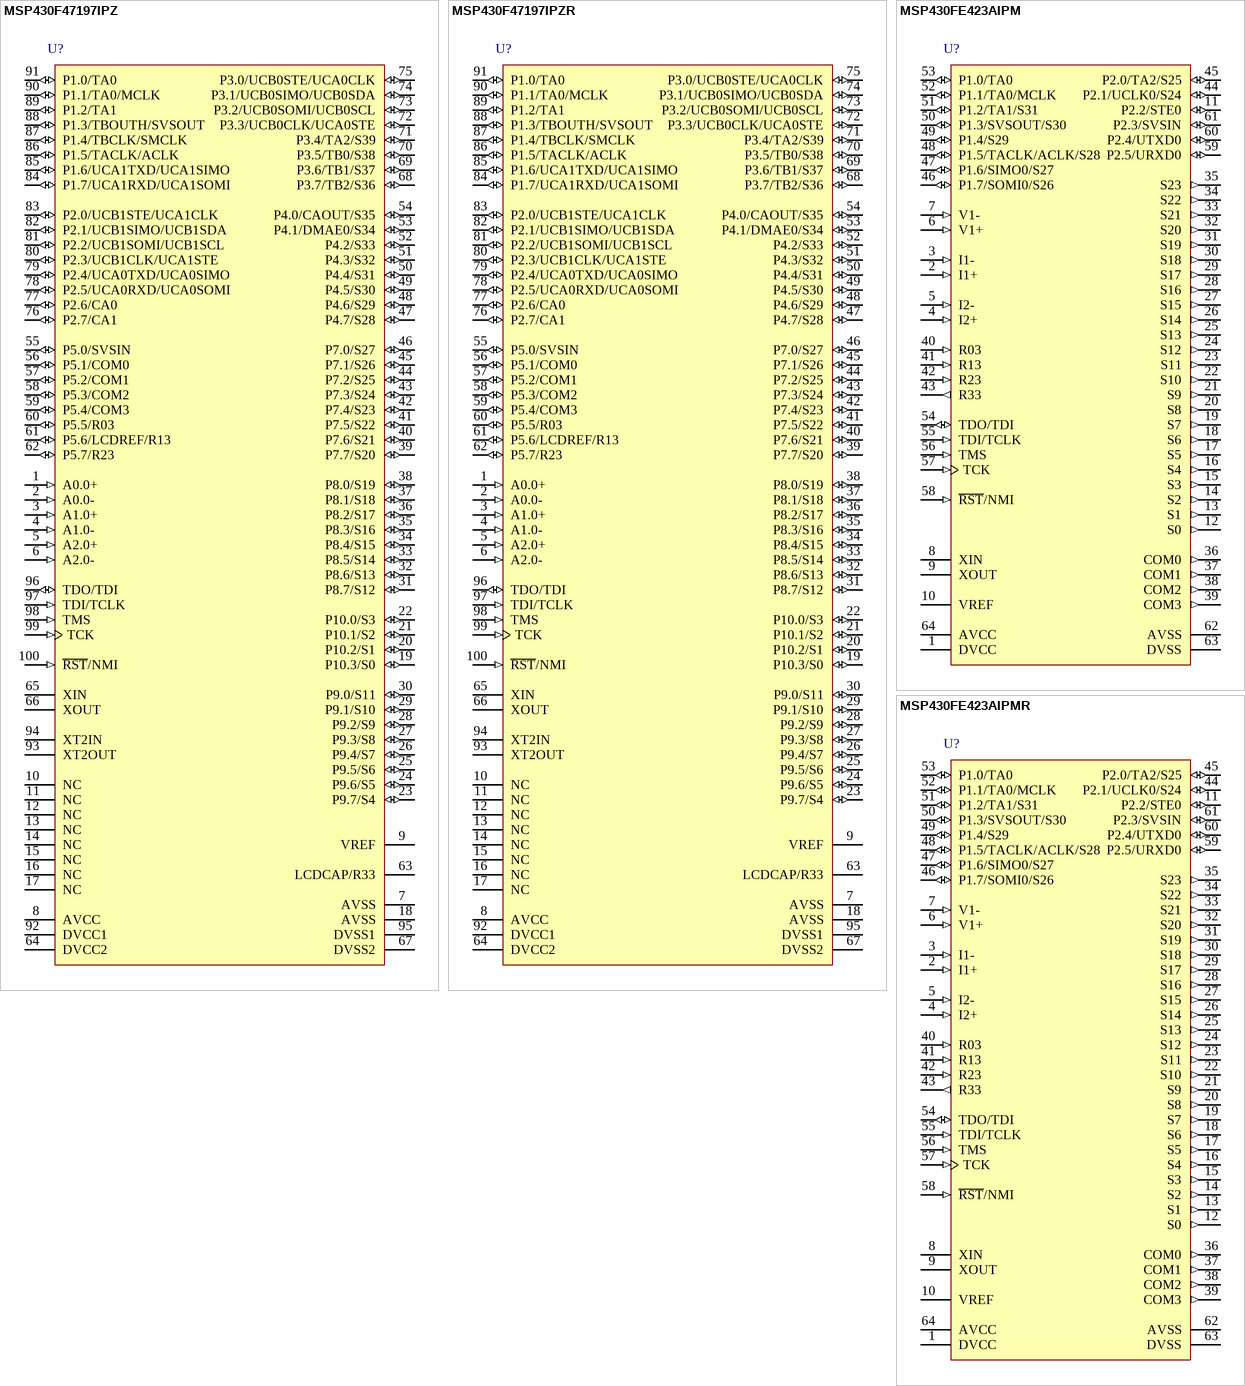
[diagram p183: symbols MSP430F47197IPZ to MSP430FE423AIPMR]